# Altium schematic symbol library KF350.SchLib: 1 symbol
Pins are listed as number, name and electrical type; pins without a type are passive.

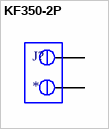
[diagram p0: symbol KF350-2P]

## KF350-2P
designator J?
footprint KF350-2P (可拼接端子/10A)
pins: 1, 2